# EAGLE library part PWR_PROG_2X4 (library myparts_201805)
2x4 angle break away for power
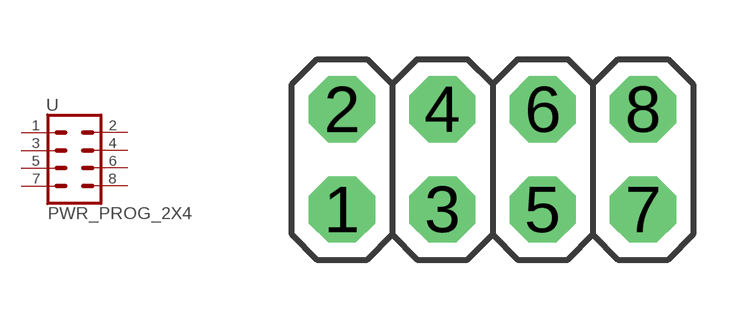
[diagram p2: symbol with the pads of 2X04; footprint 2X04]

Designator prefix -

## PWR_PROG_2X4 (AVAILABILITY: Adafruit good; DESCRIPTION: 2x4 connection power angle; MF: Adafruit; MP: 2x4; PACKAGE: 2x4 break away; PRICE: 1)  [2X04]
1  1  pas
2  2  pas
3  3  pas
4  4  pas
5  5  pas
6  6  pas
7  7  pas
8  8  pas

## Footprint 2X04 (pad centres in mm)
PIN HEADER
drill 1.016 pad 1.676 octagon: 1 -3.81,-1.27; 2 -3.81,1.27; 3 -1.27,-1.27; 4 -1.27,1.27; 5 1.27,-1.27; 6 1.27,1.27; 7 3.81,-1.27; 8 3.81,1.27